# Altium footprint library Cap_Pin.PcbLib: 7 footprints
Each footprint in its own frame and in the unit in brackets; x right, y up, seen from the top. Pads: shape width x height; smd on the part's side, far side on the other; paste and mask are expansions set on the pad; w line width, h text height; cw(c..) or ccw(c..) is an arc to the next point about the centre after c.
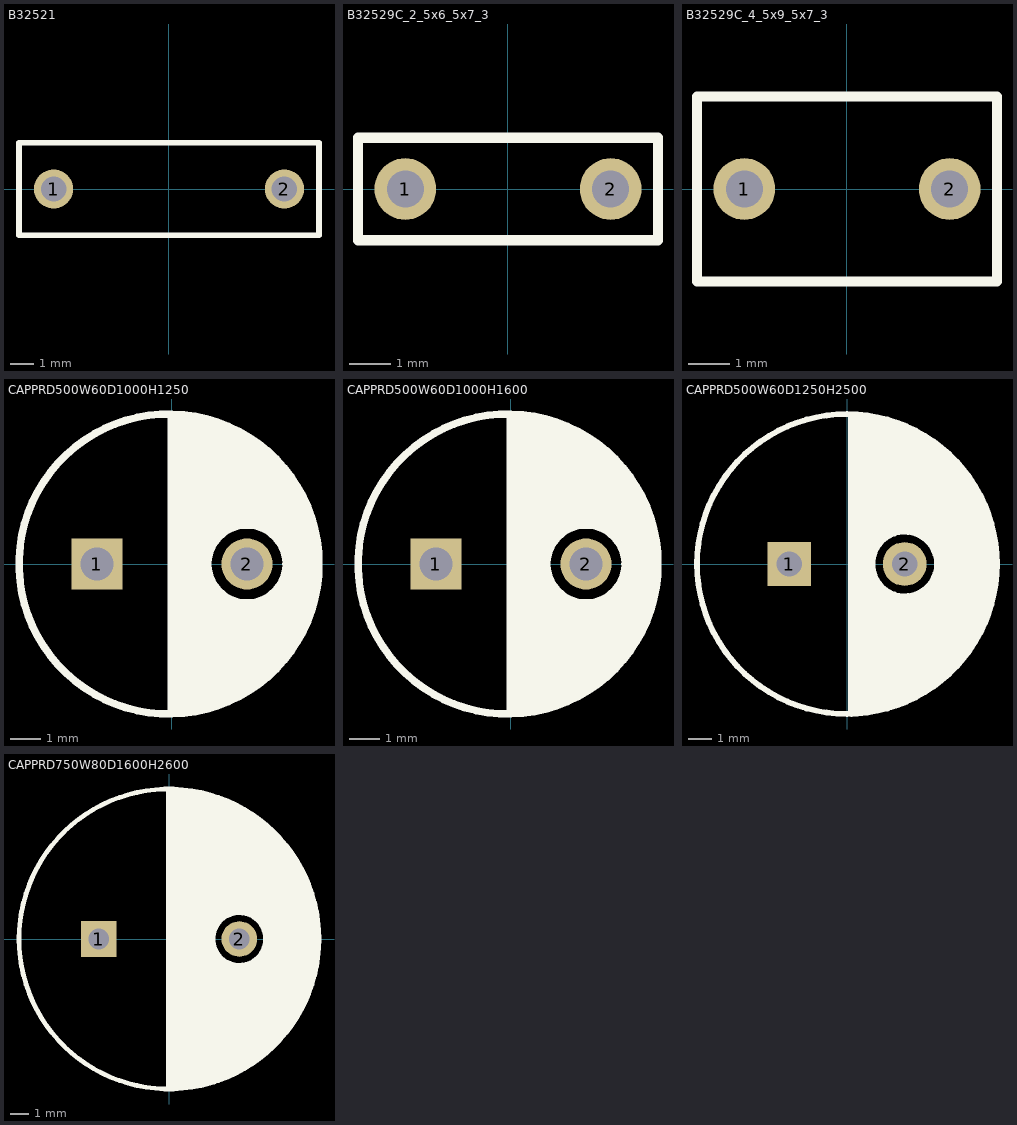
[diagram p0: the footprints below, top view; thin cyan lines are the x and y axes]

## B32521 [mm]
pads (2):
  round 1.7 hole 1.1: 1(-5,0) 2(5,0)
Top Overlay:
  lines w0.25: -6.5,-2 6.5,-2 6.5,2 -6.5,2 -6.5,-2
Top Assembly:
  lines w0.15: -6.5,-2 6.5,-2 6.5,2 -6.5,2 -6.5,-2
3D body "B32521.step": height 7.05, standoff -5.95, extent -6.5,-2 6.5,2

## B32529C_2_5x6_5x7_3 [mm]
pads (2):
  round 1.5 hole 0.9: 1(-2.5,0) 2(2.5,0)
Top Overlay:
  lines w0.25: -3.65,-1.25 3.65,-1.25 3.65,1.25 -3.65,1.25 -3.65,-1.25
Top Assembly:
  lines w0.15: -3.65,-1.25 3.65,-1.25 3.65,1.25 -3.65,1.25 -3.65,-1.25
3D body "B32529C_2_5x6_5x7_3.STEP": height 7, standoff -3, extent -3.65,-1.25 3.65,1.25

## B32529C_4_5x9_5x7_3 [mm]
pads (2):
  round 1.5 hole 0.9: 1(-2.5,0) 2(2.5,0)
Top Overlay:
  lines w0.25: -3.65,-2.25 3.65,-2.25 3.65,2.25 -3.65,2.25 -3.65,-2.25
Top Assembly:
  lines w0.15: -3.65,-2.25 3.65,-2.25 3.65,2.25 -3.65,2.25 -3.65,-2.25
3D body "B32529C_4_5x9_5x7_3.STEP": height 10, standoff -1.2, extent -3.65,-2.25 3.65,2.25

## CAPPRD500W60D1000H1250 [mm]
pads (2):
  rect 1.7x1.7 hole 1.1: 1(-2.5,0)
  round 1.7 hole 1.1: 2(2.5,0)
Top Overlay:
  circle w0.25: c-0.1,0 r5
  circle w0.25: c2.5,0 r1.3
  lines w0.3: 0,-4.9 0,4.9 ; 0.2,-4.9 0.2,4.9 ; 0.4,-4.9 0.4,4.9 ; 0.6,-4.8 0.6,4.8 ; 0.8,-4.875 0.8,4.8 ; 1,-4.7 1,4.8 ; 1.2,-4.8 1.2,-0.5 ; 1.2,0.4 1.2,4.7 ; 1.4,-0.8 1.4,-4.7 1.6,-4.5 1.6,-1.1 ; 1.4,0.8 1.4,4.7 ; 1.6,1 1.6,4.6 ; 1.8,-1.2 1.8,-4.5 2,-4.3 2,-1.3 ; 1.8,1.2 1.8,4.5 ; 2,1.3 2,4.4 ; 2.2,-4.4 2.2,-1.4 ; 2.2,1.4 2.2,4.3 ; 2.4,-4.2 2.4,-1.4 ; 2.4,1.4 2.4,4.2 ; 2.6,-1.4 2.6,-4.1 2.8,-3.9 2.8,-1.3 ; 2.6,1.4 2.6,4.1 ; 2.8,1.3 2.8,4 ; 2.9,1.3 2.9,3.8 ; 3,-3.825 3,-1.3 ; 3.1,1.2 3.1,3.7 ; 3.2,-3.6 3.2,-1.2 ; 3.3,1.1 3.3,3.5 ; 3.4,-3.4 3.4,-1.1 ; 3.5,0.9 3.5,3.4 ; 3.6,-3.2 3.6,-0.8 ; 3.7,0.6 3.7,3.1 ; 3.8,-2.9 3.8,-0.7 ; 3.9,-2.625 3.9,2.9 ; 4.1,-2.425 4.1,2.5 ; 4.372,-2.125 4.372,2.15 ; 4.572,-1.675 4.572,1.591 ; 4.772,-0.8 4.772,0.766
Top Assembly:
  circle w0.15: c-0.1,0 r5
  circle w0.15: c-0.1,0 r5
  text "+" at -4.75,-0.703 h1.52
3D body "CAPPRD500W60D1000H1250.stp": height 12.75, standoff -3.05, extent -5,-5 5.002,5

## CAPPRD500W60D1000H1600 [mm]
pads (2):
  rect 1.7x1.7 hole 1.1: 1(-2.5,0)
  round 1.7 hole 1.1: 2(2.5,0)
Top Overlay:
  circle w0.25: c2.5,0 r1.3
  circle w0.25: c-0.1,0 r5
  lines w0.3: 0,-4.9 0,4.9 ; 0.2,-4.9 0.2,4.9 ; 0.4,-4.9 0.4,4.9 ; 0.6,-4.8 0.6,4.8 ; 0.8,-4.875 0.8,4.8 ; 1,-4.7 1,4.8 ; 1.2,-4.8 1.2,-0.5 ; 1.2,0.4 1.2,4.7 ; 1.4,-0.8 1.4,-4.7 1.6,-4.5 1.6,-1.1 ; 1.4,0.8 1.4,4.7 ; 1.6,1 1.6,4.6 ; 1.8,-1.2 1.8,-4.5 2,-4.3 2,-1.3 ; 1.8,1.2 1.8,4.5 ; 2,1.3 2,4.4 ; 2.2,-4.4 2.2,-1.4 ; 2.2,1.4 2.2,4.3 ; 2.4,-4.2 2.4,-1.4 ; 2.4,1.4 2.4,4.2 ; 2.6,-1.4 2.6,-4.1 2.8,-3.9 2.8,-1.3 ; 2.6,1.4 2.6,4.1 ; 2.8,1.3 2.8,4 ; 2.9,1.3 2.9,3.8 ; 3,-3.825 3,-1.3 ; 3.1,1.2 3.1,3.7 ; 3.2,-3.6 3.2,-1.2 ; 3.3,1.1 3.3,3.5 ; 3.4,-3.4 3.4,-1.1 ; 3.5,0.9 3.5,3.4 ; 3.6,-3.2 3.6,-0.8 ; 3.7,0.6 3.7,3.1 ; 3.8,-2.9 3.8,-0.7 ; 3.9,-2.625 3.9,2.9 ; 4.1,-2.425 4.1,2.5 ; 4.372,-2.125 4.372,2.15 ; 4.572,-1.675 4.572,1.591 ; 4.772,-0.8 4.772,0.766
Top Assembly:
  circle w0.15: c-0.1,0 r5
  text "+" at -4.75,-0.803 h1.52
3D body "CAPPRD500W60D1000H1600.stp": height 16.25, standoff -3.05, extent -5,-5 5.002,5

## CAPPRD500W60D1250H2500 [mm]
pads (2):
  rect 1.9x1.9 hole 1.1: 1(-2.5,0)
  round 1.9 hole 1.1: 2(2.5,0)
Top Overlay:
  circle w0.25: c0,0 r6.5
  circle w0.25: c2.5,0 r1.4
  lines w0.3: 0.2,-6.47 0.2,6.431 ; 0.4,-6.432 0.4,6.417 ; 0.6,-6.44 0.6,6.404 ; 0.8,-6.404 0.8,6.397 ; 1,-6.37 1,6.352 ; 1.2,-6.331 1.2,-0.7 ; 1.2,0.7 1.2,6.329 ; 1.4,-6.298 1.4,-1 ; 1.4,1 1.4,6.286 ; 1.6,-6.233 1.6,-1.1 ; 1.6,1.2 1.6,6.261 ; 1.8,-6.187 1.8,-1.4 ; 1.8,1.4 1.8,6.218 ; 2,-6.124 2,-1.4 ; 2.002,1.362 2.002,6.123 ; 2.2,-6.056 2.2,-1.5 ; 2.2,1.5 2.2,6.038 ; 2.4,-5.994 2.4,-1.5 ; 2.4,1.5 2.4,5.916 ; 2.6,-5.896 2.6,-1.5 ; 2.6,1.5 2.6,5.9 ; 2.8,-5.78 2.8,-1.5 ; 2.8,1.5 2.8,5.8 ; 3,-5.72 3,-1.5 ; 3,1.4 3,5.7 ; 3.2,-5.606 3.2,-1.3 ; 3.2,1.4 3.2,5.458 3.3,5.558 ; 3.25,5.508 3.35,5.508 3.4,5.458 3.4,1.3 ; 3.4,-5.47 3.4,-1.3 ; 3.5,5.4 3.6,5.3 3.6,1.1 ; 3.6,-5.313 3.6,-1 ; 3.8,-5.221 3.8,-0.684 ; 3.8,0.8 3.8,5.074 4,5.074 4,-5.039 ; 4.2,-4.898 4.2,4.9 ; 4.4,-4.663 4.4,4.7 ; 4.6,-4.46 4.6,4.5 ; 4.8,-4.281 4.8,4.3 ; 5,-4.093 5,4.1 ; 5.2,-3.79 5.2,3.8 ; 5.4,-3.562 5.4,3.4 ; 5.524,-3.256 5.6,-3.18 5.6,3.2 ; 5.716,-2.916 5.8,-2.832 5.8,2.8 ; 6,-2.348 6,2.4 ; 6.2,-1.689 6.2,1.7 ; 6.4,-0.838 6.4,1
Top Assembly:
  circle w0.15: c0,0 r6.5
  text "+" at -5.85,-0.95 h1.8
3D body "CAPPRD500W60D1250H2500.stp": height 26, standoff -2.3, extent -6.249,-6.25 6.253,6.25

## CAPPRD750W80D1600H2600 [mm]
pads (2):
  rect 1.9x1.9 hole 1.1: 1(-3.75,0)
  round 1.9 hole 1.1: 2(3.75,0)
Top Overlay:
  circle w0.25: c3.75,0 r1.4
  circle w0.25: c0,0 r8
  lines w0.3: 0,-7.9 0,7.9 ; 0.2,-7.9 0.2,7.8 ; 0.4,-7.9 0.4,7.8 ; 0.6,-7.8 0.6,7.8 ; 0.8,-7.8 0.8,7.8 ; 1,-7.8 1,7.8 ; 1.2,-7.8 1.2,7.8 ; 1.4,-7.7 1.4,7.7 ; 1.6,-7.7 1.6,7.7 ; 1.8,-7.6 1.8,7.6 ; 2,-7.6 2,7.6 ; 2.2,-7.5 2.2,7.5 ; 2.4,-7.6 2.4,-0.7 ; 2.4,0.7 2.4,7.5 ; 2.6,-7.5 2.6,-1 ; 2.6,1 2.6,7.4 ; 2.8,-7.4 2.8,-1.1 ; 2.8,1.2 2.8,7.3 ; 3,-7.3 3,-1.4 ; 3,1.4 3,7.3 ; 3.2,-7.2 3.2,-1.4 ; 3.2,1.4 3.2,7.2 ; 3.4,-7.2 3.4,-1.5 ; 3.4,1.5 3.4,7.1 ; 3.6,-7 3.6,-1.5 ; 3.6,1.5 3.6,7 ; 3.8,-7 3.8,-1.5 ; 3.8,1.5 3.8,6.9 ; 4,-6.9 4,-1.5 ; 4,1.5 4,6.7 ; 4.2,-6.7 4.2,-1.5 ; 4.2,1.4 4.2,6.6 ; 4.4,-6.5 4.4,-1.3 ; 4.4,1.4 4.4,6.5 ; 4.6,-6.5 4.6,-1.3 ; 4.6,1.3 4.6,6.3 ; 4.8,-6.3 4.8,-1 ; 4.8,1.1 4.8,6.2 ; 5,-6.1 5,-0.9 ; 5,0.8 5,6 ; 5.2,-6 5.2,5.9 ; 5.4,-5.7 5.4,5.7 ; 5.6,-5.5 5.6,5.5 ; 5.8,-5.3 5.8,5.3 ; 6,-5.1 6,5.1 ; 6.2,-4.8 6.2,4.8 ; 6.4,-4.6 6.4,4.6 ; 6.6,-4.3 6.6,4.3 ; 6.8,-4 6.8,4 ; 7,-3.7 7,3.6 ; 7.2,-3.2 7.2,3.2 ; 7.4,-2.8 7.4,2.7 ; 7.6,-2.2 7.6,2.2 ; 7.8,-1.4 7.8,1.4
Top Assembly:
  circle w0.15: c0,0 r8
  text "+" at -7.25,-0.95 h1.8
3D body "CAPPRD750W80D1600H2500.stp": height 25.1, standoff -4.2, extent -8,-7.997 8.002,7.997